# Altium schematic symbol library LED.SchLib: 2 symbols
Pins are listed as number, name and electrical type; pins without a type are passive.

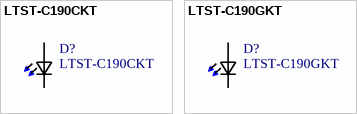
[diagram p0: symbols LTST-C190CKT to LTST-C190GKT]

## LTST-C190CKT
designator D?
Red LED Indication - Discrete 1.8V 10mA 0603 /; Manufacturer: Lite-On Inc.; Availability: Unavailable; Package: 0603 Lite-On; Manufacturer Part Number 1: LTST-C190CKT
footprint 0603
pins: 1 K2, 2 A2

## LTST-C190GKT
designator D?
Green 569nm LED Indication - Discrete 2.1V 10mA 0603 /; Manufacturer: Lite-On Inc.; Availability: Unavailable; Package: 0603 Lite-On; Manufacturer Part Number 1: LTST-C190GKT
footprint 0603
pins: 1 K2, 2 A2